# EAGLE library part TPS61091 (library electronic-labs)
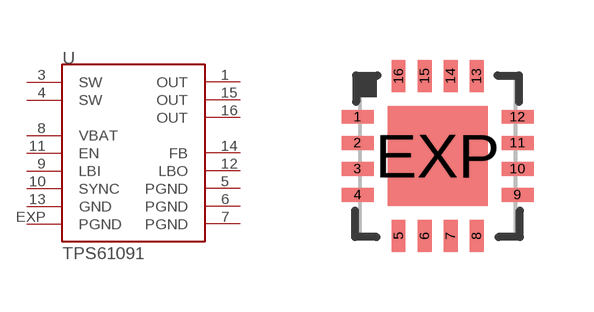
[diagram p24: symbol with the pads of QFN16-4X4; footprint QFN16-4X4]

Designator prefix U

## TPS61091  [QFN16-4X4]
1  OUT
3  SW
4  SW
5  PGND
6  PGND
7  PGND
8  VBAT
9  LBI
10  SYNC
11  EN
12  LBO
13  GND
14  FB
15  OUT
16  OUT
EXP  PGND

## Footprint QFN16-4X4 (pad centres in mm)
16-Lead Plastic Quad Flat, No Lead Package (ML) - 4x4x0.9mm Body [QFN] Source: http://ww1.microchip.com/downloads/en/DeviceDoc/41203E.pdf
smd 0.8 x 0.35: 1 -2,0.975; 2 -2,0.325; 3 -2,-0.325; 4 -2,-0.975; 9 2,-0.975; 10 2,-0.325; 11 2,0.325; 12 2,0.975
smd 0.35 x 0.8: 5 -0.975,-2; 6 -0.325,-2; 7 0.325,-2; 8 0.975,-2; 13 0.975,2; 14 0.325,2; 15 -0.325,2; 16 -0.975,2
smd 2.5 x 2.5: EXP 0,0